# Altium footprint library CAP_ELEC_SIZE_G.PcbLib: 1 footprints
Each footprint in its own frame and in the unit in brackets; x right, y up, seen from the top. Pads: shape width x height; smd on the part's side, far side on the other; paste and mask are expansions set on the pad; w line width, h text height; cw(c..) or ccw(c..) is an arc to the next point about the centre after c.
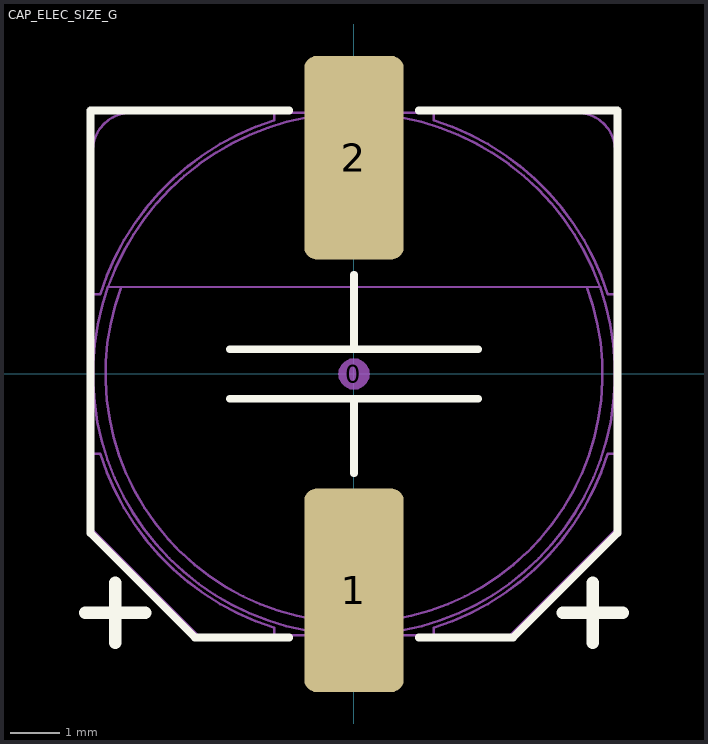
[diagram p0: the footprint, top view; thin cyan lines are the x and y axes]

## CAP_ELEC_SIZE_G [mm] "Capacitor, polarized, aluminum can; 10.0x10.2mm DxH"
height 10.2
pads (3):
  round 0.635 on Mech15: 0(0,0)
  rrect25% 2x4.1 smd: 1(0,-4.35) 2(0,4.35)
Top Overlay:
  lines w0.152: -2.5,-0.5 2.5,-0.5 ; -2.5,0.5 2.5,0.5 ; -1.3,-5.3 -3.2,-5.3 -5.3,-3.2 -5.3,5.3 -1.3,5.3 ; 0,-2 0,-0.5 ; 0,0.5 0,2 ; 1.3,-5.3 3.2,-5.3 5.3,-3.2 5.3,5.3 1.3,5.3
  lines w0.254: -5.4,-4.8 -4.2,-4.8 ; -4.8,-5.4 -4.8,-4.2 ; 4.2,-4.8 5.4,-4.8 ; 4.8,-5.4 4.8,-4.2
Mechanical 13:
  lines w0.05: -5.25,-1.601 -5.105,-1.601 ccw(c0,0) -1.601,-5.105 -1.601,-5.25 ; -5.25,1.601 -5.105,1.601 cw(c0,0) -1.601,5.105 -1.601,5.25 ; -4.948,1.75 cw(c0,0) 4.948,1.75 ; -4.684,1.75 ccw(c0,0) 4.684,1.75 ; -0.45,-5.25 -0.45,-6 0.45,-6 0.45,-5.25 ; -0.45,5.25 -0.45,6 0.45,6 0.45,5.25 ; 1.601,-5.25 1.601,-5.105 ccw(c0,0) 5.105,-1.601 5.25,-1.601 ; 1.601,5.25 1.601,5.105 cw(c0,0) 5.105,1.601 5.25,1.601 ; -5.25,-3.15 -3.15,-5.25 3.15,-5.25 5.25,-3.15 5.25,4.5 ccw(c4.5,4.5) 4.5,5.25 -4.5,5.25 ccw(c-4.5,4.5) -5.25,4.5 -5.25,-3.15 ; -4.95,1.75 ccw(c0,0) 4.95,1.75 -4.95,1.75
3D body "CAP Alum Elec Size G.STEP": height 10.5, standoff 0, extent -5.25,-6 5.25,6